# Altium schematic symbol library SchemFinal.SchLib: 2 symbols
Pins are listed as number, name and electrical type; pins without a type are passive.

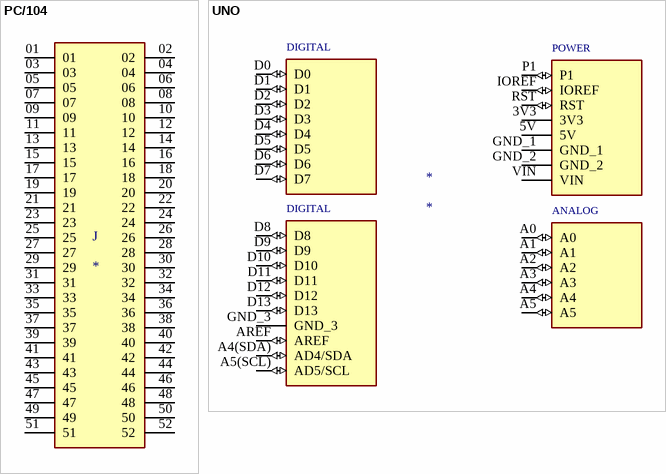
[diagram p0: symbols PC/104 to UNO]

## PC/104
designator J
MP: ESQ-126-39-G-D; MF: Samtec; Package: None; Value: *; Availability: Unavailable; Price: None; SnapEDA_Link: https://www.snapeda.com/parts/ESQ-126-39-G-D/Samtec%20Inc./view-part/490181/?ref=snap
footprint SAMTEC_ESQ-126-39-G-D
pins: 01, 02, 03, 04, 05, 06, 07, 08, 09, 10, 11, 12, 13, 14, 15, 16, 17, 18, 19, 20, 21, 22, 23, 24, 25, 26, 27, 28, 29, 30, 31, 32, 33, 34, 35, 36, 37, 38, 39, 40, 41, 42, 43, 44, 45, 46, 47, 48, 49, 50, 51, 52

## UNO
designator *
pins: 3V3 (power), 5V (power), A0 (io), A1 (io), A2 (io), A3 (io), A4 (io), A4(SDA) AD4/SDA (io), A5 (io), A5(SCL) AD5/SCL (io), AREF (io), D0 (io), D1 (io), D2 (io), D3 (io), D4 (io), D5 (io), D6 (io), D7 (io), D8 (io), D9 (io), D10 (io), D11 (io), D12 (io), D13 (io), GND_1 (power), GND_2 (power), GND_3 (power), IOREF (io), P1 (io), RST (io), VIN (power)
text: DIGITAL; POWER; ANALOG